# EAGLE library part SPBTLE-RF (library custom)
Very low power module for Bluetooth Smart v4.1
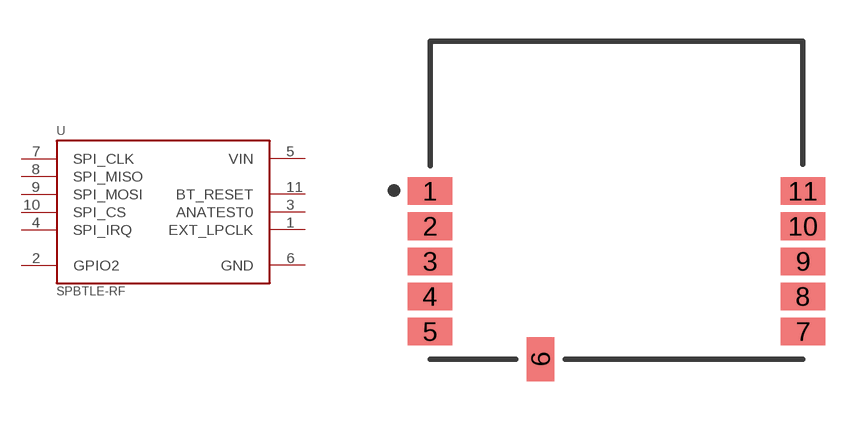
[diagram p9: symbol with the pads of XCVR_SPBTLE-RF; footprint XCVR_SPBTLE-RF]

Designator prefix U

## SPBTLE-RF (AVAILABILITY: Unavailable; DESCRIPTION: Very low power module for Bluetooth Smart v4.1; MF: STMicroelectronics; MP: SPBTLE-RF; PACKAGE: SMD-11 STMicroelectronics; PRICE: None)  [XCVR_SPBTLE-RF]
1  EXT_LPCLK  in
2  GPIO2
3  ANATEST0  in
4  SPI_IRQ  out
5  VIN  pwr
6  GND  pwr
7  SPI_CLK  in
8  SPI_MISO  out
9  SPI_MOSI  in
10  SPI_CS  in
11  BT_RESET  in

## Footprint XCVR_SPBTLE-RF (pad centres in mm)
smd 1.6 x 1: 1 -6.75,0.33; 2 -6.75,-0.94; 3 -6.75,-2.21; 4 -6.75,-3.48; 5 -6.75,-4.75; 7 6.75,-4.75; 8 6.75,-3.48; 9 6.75,-2.21; 10 6.75,-0.94; 11 6.75,0.33
smd 1 x 1.6: 6 -2.75,-5.75